# Altium footprint library capae_1630x1630x2200.PcbLib: 1 footprints
Each footprint in its own frame and in the unit in brackets; x right, y up, seen from the top. Pads: shape width x height; smd on the part's side, far side on the other; paste and mask are expansions set on the pad; w line width, h text height; cw(c..) or ccw(c..) is an arc to the next point about the centre after c.
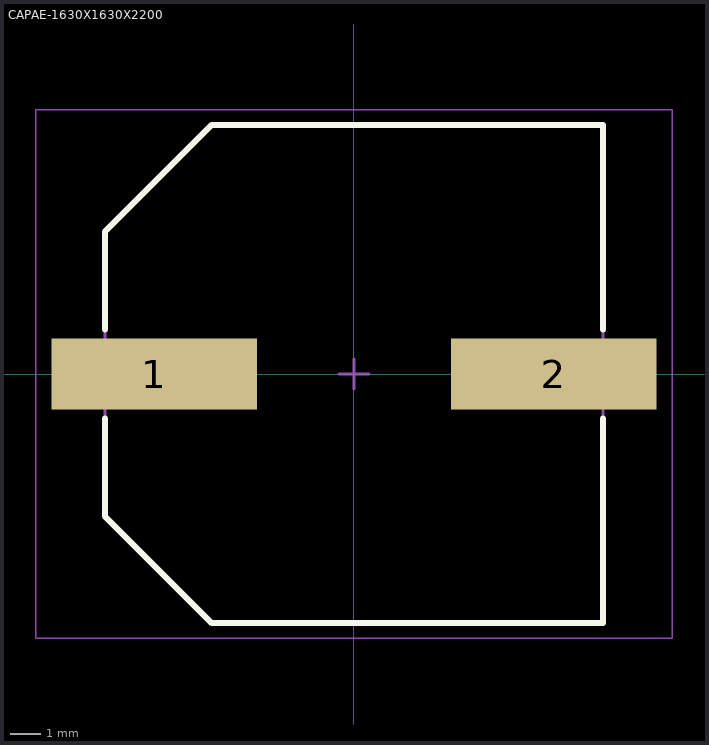
[diagram p0: the footprint, top view; thin cyan lines are the x and y axes]

## CAPAE-1630X1630X2200 [mm] "Aluminum Electrolytic Capacitor, Body 16,30x16,30x22,00mm, IPC Medium Density"
height 22
pads (2):
  rect 6.85x2.35 smd: 1(-6.65,0) 2(6.65,0)
Top Overlay:
  lines w0.2: -8.3,-1.475 -8.3,-4.738 -4.737,-8.3 8.3,-8.3 8.3,-1.475 ; -8.3,1.475 -8.3,4.737 -4.737,8.3 8.3,8.3 8.3,1.475
Mechanical 7:
  text ".Comment" at 2.286,9.271 h1.2
Mechanical 9:
  text ".Designator" at 1.016,9.271 h1.2
Mechanical 11:
  lines w0.1: -8.3,-4.738 -8.3,4.737 -4.737,8.3 8.3,8.3 8.3,-8.3 -4.737,-8.3 -8.3,-4.738
Mechanical 15:
  lines w0.05: -10.6,-8.8 10.6,-8.8 10.6,8.8 -10.6,8.8 -10.6,-8.8
  lines w0.1: -0.5,0 0.5,0 ; 0,-0.5 0,0.5
3D body "CAPAE-1600X1600X2100.step": height 22, standoff 0, extent -9.3,-8.3 9.3,8.3